# Altium footprint library PCB封装.PcbLib: 59 footprints (part 2 of 4)
Each footprint in its own frame and in the unit in brackets; x right, y up, seen from the top. Pads: shape width x height; smd on the part's side, far side on the other; paste and mask are expansions set on the pad; w line width, h text height; cw(c..) or ccw(c..) is an arc to the next point about the centre after c.
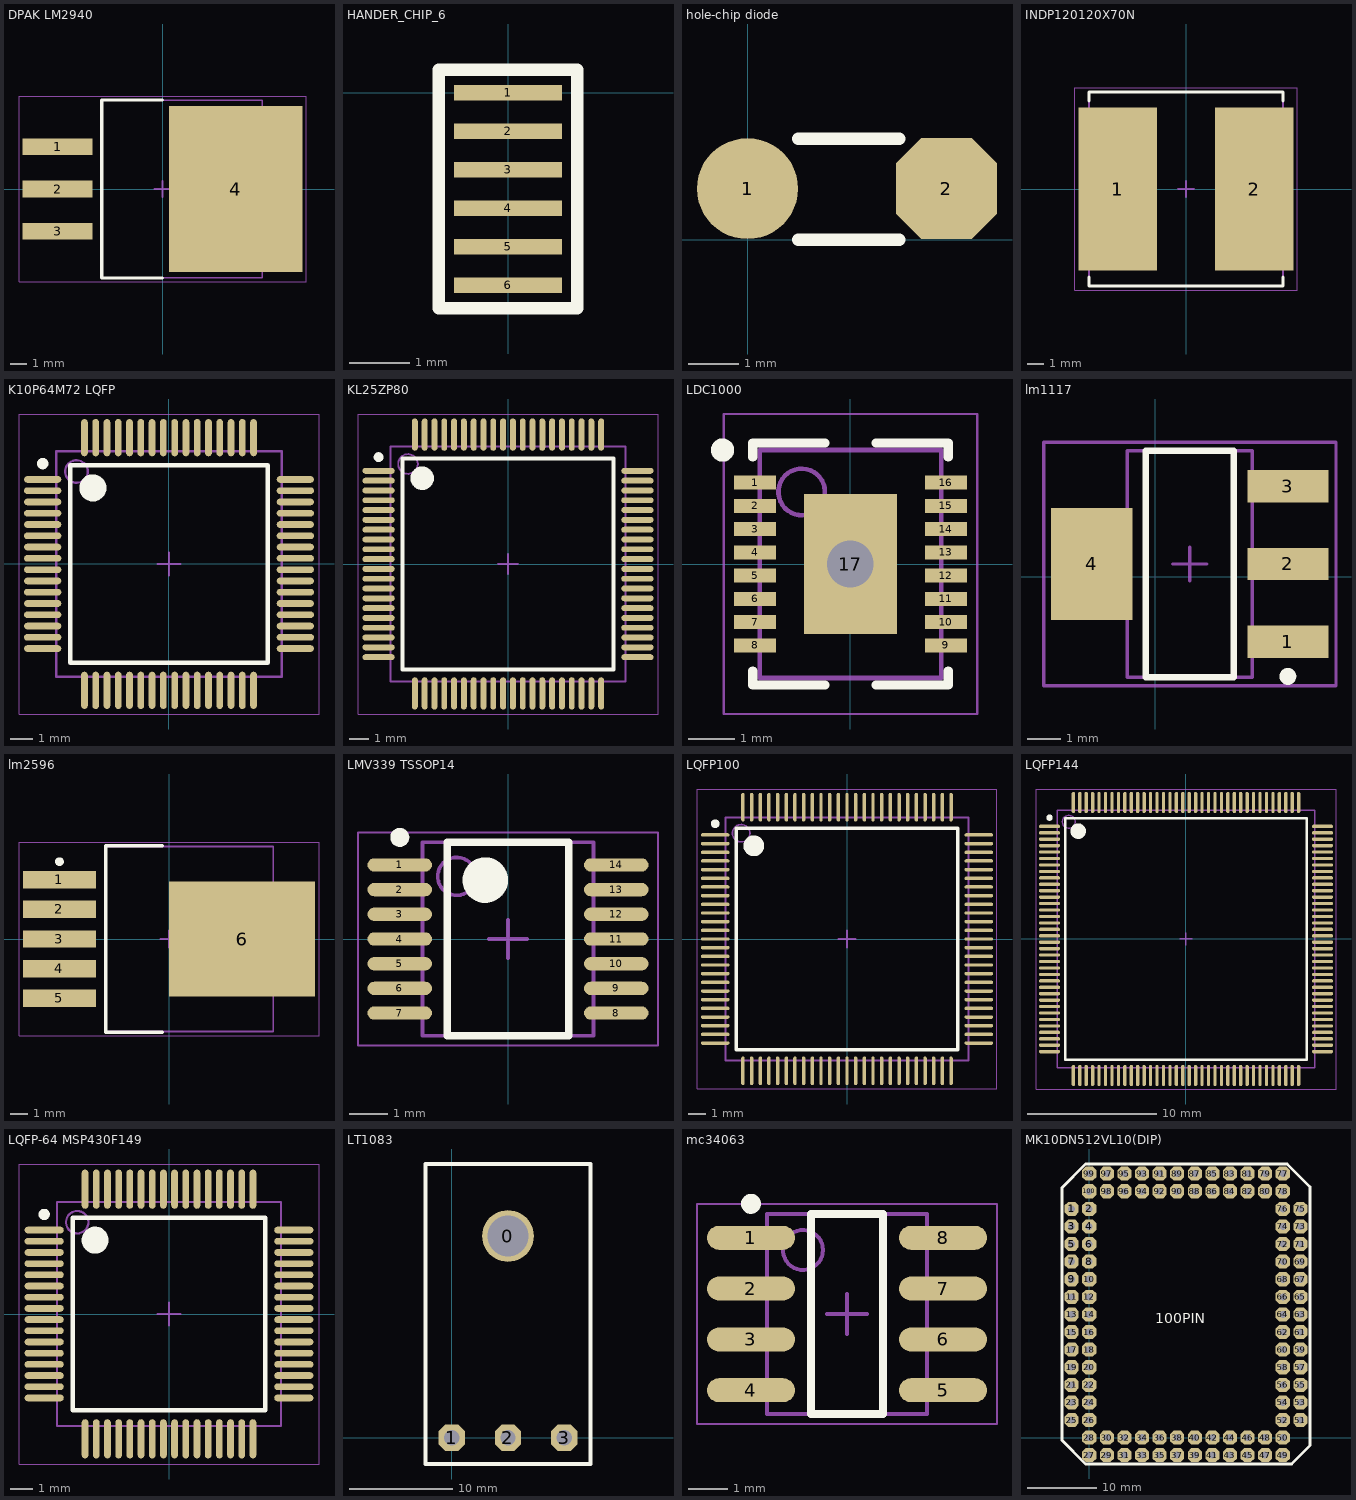
[diagram p1: the footprints below, top view; thin cyan lines are the x and y axes]

## DPAK LM2940 [mm] "D2-PAK, 4-Pads, Body 7.93x8.69mm (max), IPC Medium Density"
height 4.83
pads (4):
  rect 4.2x1 smd: 1(-6.3,2.54) 2(-6.3,0) 3(-6.3,-2.54)
  rect 8x10 smd: 4(4.4,0)
Top Overlay:
  lines w0.2: 0,-5.35 -3.65,-5.35 -3.65,5.35 0,5.35
Mechanical 13:
  lines w0.1: -3.65,-5.325 -3.65,5.325 6,5.325 6,-5.325 -3.65,-5.325
Mechanical 15:
  lines w0.05: -8.625,-5.575 -8.625,5.575 8.625,5.575 8.625,-5.575 -8.625,-5.575
  lines w0.1: -0.5,0 0.5,0 ; 0,-0.5 0,0.5
3D body: height 4.83, standoff 0.58, extent -3.65,-5.325 6,5.325

## HANDER_CHIP_6 [mil]
pads (6):
  rect 70x10 smd: 1(0,0) 2(0,-25) 3(0,-50) 4(0,-75) 5(0,-100) 6(0,-125)
Top Overlay:
  lines w8: -45,-140 -45,15 45,15 45,-140 -45,-140

## hole-chip diode [mm]
pads (2):
  round 2 smd: 1(0,1.016)
  oct 2x2 smd: 2(3.937,1.016)
Top Overlay:
  lines w0.245: 1,0 3,0 ; 1,2 3,2

## INDP120120X70N [mm] "Precision Wire Wound Inductor, 2-Leads, Body 12.00x12.00mm, IPC Medium Density"
height 7
pads (2):
  rect 4.85x10.1 smd: 1(-4.225,0) 2(4.225,0)
Top Overlay:
  lines w0.2: -6,-5.45 -6,-6 6,-6 6,-5.45 ; -6,5.45 -6,6 6,6 6,5.45
Mechanical 13:
  lines w0.1: -6,-6 -6,6 6,6 6,-6 -6,-6
Mechanical 15:
  lines w0.05: -6.875,-6.25 -6.875,6.25 6.875,6.25 6.875,-6.25 -6.875,-6.25
  lines w0.1: -0.5,0 0.5,0 ; 0,-0.5 0,0.5
3D body: height 7, standoff 0, extent -6,-6 6,6

## K10P64M72 LQFP [mm] "TSQFP, 64-Leads, K10P64M72"
height 1.4
pads (64):
  oval 1.65x0.3 smd: 1(-5.6,3.75) 2(-5.6,3.25) 3(-5.6,2.75) 4(-5.6,2.25) 5(-5.6,1.75) 6(-5.6,1.25) 7(-5.6,0.75) 8(-5.6,0.25) 9(-5.6,-0.25) 10(-5.6,-0.75) 11(-5.6,-1.25) 12(-5.6,-1.75) 13(-5.6,-2.25) 14(-5.6,-2.75) 15(-5.6,-3.25) 16(-5.6,-3.75) 33(5.6,-3.75) 34(5.6,-3.25) 35(5.6,-2.75) 36(5.6,-2.25) 37(5.6,-1.75) 38(5.6,-1.25) 39(5.6,-0.75) 40(5.6,-0.25) 41(5.6,0.25) 42(5.6,0.75) 43(5.6,1.25) 44(5.6,1.75) 45(5.6,2.25) 46(5.6,2.75) 47(5.6,3.25) 48(5.6,3.75)
  oval 0.3x1.65 smd: 17(-3.75,-5.6) 18(-3.25,-5.6) 19(-2.75,-5.6) 20(-2.25,-5.6) 21(-1.75,-5.6) 22(-1.25,-5.6) 23(-0.75,-5.6) 24(-0.25,-5.6) 25(0.25,-5.6) 26(0.75,-5.6) 27(1.25,-5.6) 28(1.75,-5.6) 29(2.25,-5.6) 30(2.75,-5.6) 31(3.25,-5.6) 32(3.75,-5.6) 49(3.75,5.6) 50(3.25,5.6) 51(2.75,5.6) 52(2.25,5.6) 53(1.75,5.6) 54(1.25,5.6) 55(0.75,5.6) 56(0.25,5.6) 57(-0.25,5.6) 58(-0.75,5.6) 59(-1.25,5.6) 60(-1.75,5.6) 61(-2.25,5.6) 62(-2.75,5.6) 63(-3.25,5.6) 64(-3.75,5.6)
Top Overlay:
  circle w0.6: c-3.375,3.375 r0.3
  circle w0.25: c-5.6,4.45 r0.125
  lines w0.2: -4.375,-4.375 4.375,-4.375 4.375,4.375 -4.375,4.375 -4.375,-4.375
Mechanical 13:
  circle w0.1: c-4.1,4.1 r0.5
  lines w0.1: -5,-5 5,-5 5,5 -5,5 -5,-5
Mechanical 15:
  lines w0.05: -6.65,-6.65 6.65,-6.65 6.65,6.65 -6.65,6.65 -6.65,-6.65
  lines w0.1: -0.5,0 0.5,0 ; 0,-0.5 0,0.5
3D body: height 1.4, standoff 0.25, extent -5,-5 5,5

## KL25ZP80 [mm]
height 1.6
pads (80):
  oval 1.65x0.3 smd: 1(-6.6,4.75) 2(-6.6,4.25) 3(-6.6,3.75) 4(-6.6,3.25) 5(-6.6,2.75) 6(-6.6,2.25) 7(-6.6,1.75) 8(-6.6,1.25) 9(-6.6,0.75) 10(-6.6,0.25) 11(-6.6,-0.25) 12(-6.6,-0.75) 13(-6.6,-1.25) 14(-6.6,-1.75) 15(-6.6,-2.25) 16(-6.6,-2.75) 17(-6.6,-3.25) 18(-6.6,-3.75) 19(-6.6,-4.25) 20(-6.6,-4.75) 41(6.6,-4.75) 42(6.6,-4.25) 43(6.6,-3.75) 44(6.6,-3.25) 45(6.6,-2.75) 46(6.6,-2.25) 47(6.6,-1.75) 48(6.6,-1.25) 49(6.6,-0.75) 50(6.6,-0.25) 51(6.6,0.25) 52(6.6,0.75) 53(6.6,1.25) 54(6.6,1.75) 55(6.6,2.25) 56(6.6,2.75) 57(6.6,3.25) 58(6.6,3.75) 59(6.6,4.25) 60(6.6,4.75)
  oval 0.3x1.65 smd: 21(-4.75,-6.6) 22(-4.25,-6.6) 23(-3.75,-6.6) 24(-3.25,-6.6) 25(-2.75,-6.6) 26(-2.25,-6.6) 27(-1.75,-6.6) 28(-1.25,-6.6) 29(-0.75,-6.6) 30(-0.25,-6.6) 31(0.25,-6.6) 32(0.75,-6.6) 33(1.25,-6.6) 34(1.75,-6.6) 35(2.25,-6.6) 36(2.75,-6.6) 37(3.25,-6.6) 38(3.75,-6.6) 39(4.25,-6.6) 40(4.75,-6.6) 61(4.75,6.6) 62(4.25,6.6) 63(3.75,6.6) 64(3.25,6.6) 65(2.75,6.6) 66(2.25,6.6) 67(1.75,6.6) 68(1.25,6.6) 69(0.75,6.6) 70(0.25,6.6) 71(-0.25,6.6) 72(-0.75,6.6) 73(-1.25,6.6) 74(-1.75,6.6) 75(-2.25,6.6) 76(-2.75,6.6) 77(-3.25,6.6) 78(-3.75,6.6) 79(-4.25,6.6) 80(-4.75,6.6)
Top Overlay:
  circle w0.6: c-4.375,4.375 r0.3
  circle w0.25: c-6.6,5.45 r0.125
  lines w0.2: -5.375,-5.375 5.375,-5.375 5.375,5.375 -5.375,5.375 -5.375,-5.375
Mechanical 13:
  circle w0.1: c-5.1,5.1 r0.5
  lines w0.1: -6,-6 6,-6 6,6 -6,6 -6,-6
Mechanical 15:
  lines w0.05: -7.65,-7.65 7.65,-7.65 7.65,7.65 -7.65,7.65 -7.65,-7.65
  lines w0.1: -0.5,0 0.5,0 ; 0,-0.5 0,0.5
3D body: height 1.6, standoff 0.15, extent -6,-6 6,6

## LDC1000 [mm] "QFN, 16-Leads, Body 5.00x4.00mm, Pitch 0.50mm/0.00mm, Thermal Pad 3.75x0.00mm, IPC Medium Density"
height 0.8
pads (17):
  rect 0.9x0.3 smd: 1(-2.05,1.75) 2(-2.05,1.25) 3(-2.05,0.75) 4(-2.05,0.25) 5(-2.05,-0.25) 6(-2.05,-0.75) 7(-2.05,-1.25) 8(-2.05,-1.75) 9(2.05,-1.75) 10(2.05,-1.25) 11(2.05,-0.75) 12(2.05,-0.25) 13(2.05,0.25) 14(2.05,0.75) 15(2.05,1.25) 16(2.05,1.75)
  rect 2x3 hole 1: 17(0,0)
Top Overlay:
  circle w0.25: c-2.75,2.45 r0.125
  lines w0.2: -2.1,-2.3 -2.1,-2.6 -0.55,-2.6 ; -2.1,2.3 -2.1,2.6 -0.55,2.6 ; 0.55,-2.6 2.1,-2.6 2.1,-2.3 ; 0.55,2.6 2.1,2.6 2.1,2.3
Mechanical 13:
  circle w0.1: c-1.05,1.55 r0.5
  lines w0.1: -1.95,-2.45 -1.95,2.45 1.95,2.45 1.95,-2.45 -1.95,-2.45
Mechanical 15:
  lines w0.05: -2.725,-3.225 -2.725,3.225 2.725,3.225 2.725,-3.225 -2.725,-3.225
  lines w0.1: -0.5,0 0.5,0 ; 0,-0.5 0,0.5
3D body: height 0.8, standoff 0.1, extent -1.95,-2.45 1.95,2.45

## lm1117 [mm]
pads (4):
  rect 2.4x0.95 smd: 1(3.916,-1.919) 2(3.916,0.381) 3(3.916,2.681)
  rect 2.4x3.3 smd: 4(-1.884,0.381)
Top Overlay:
  circle w0.25: c3.916,-2.944 r0.125
  lines w0.2: -0.284,-2.969 2.316,-2.969 2.316,3.731 -0.284,3.731 -0.284,-2.969
Mechanical 13:
  lines w0.1: -0.834,-2.969 2.866,-2.969 2.866,3.731 -0.834,3.731 -0.834,-2.969
Mechanical 15:
  lines w0.1: 0.516,0.381 1.516,0.381 ; 1.016,-0.119 1.016,0.881 ; -3.309,-3.219 5.341,-3.219 5.341,3.981 -3.309,3.981 -3.309,-3.219
3D body: height 1.8, standoff 0.02, extent -0.834,-2.969 2.866,3.731

## lm2596 [mm]
height 4.83
pads (6):
  rect 4.2x1 smd: 1(-6.3,3.4) 2(-6.3,1.7) 3(-6.3,0) 4(-6.3,-1.7) 5(-6.3,-3.4)
  rect 8.4x6.6 smd: 6(4.2,0)
Top Overlay:
  circle w0.25: c-6.3,4.45 r0.125
  lines w0.2: -0.4,-5.35 -3.65,-5.35 -3.65,5.35 -0.4,5.35
Mechanical 13:
  lines w0.1: -3.65,-5.325 -3.65,5.325 6,5.325 6,-5.325 -3.65,-5.325
Mechanical 15:
  lines w0.05: -8.625,-5.575 -8.625,5.575 8.625,5.575 8.625,-5.575 -8.625,-5.575
  lines w0.1: -0.5,0 0.5,0 ; 0,-0.5 0,0.5
3D body: height 4.83, standoff 0.58, extent -3.65,-5.325 6,5.325

## LMV339 TSSOP14 [mm] "TSOP, 14-Leads, Body 5.00x4.40mm, Pitch 0.65mm, IPC Medium Density"
height 1.2
pads (14):
  oval 1.7x0.35 smd: 1(-2.85,1.95) 2(-2.85,1.3) 3(-2.85,0.65) 4(-2.85,0) 5(-2.85,-0.65) 6(-2.85,-1.3) 7(-2.85,-1.95) 8(2.85,-1.95) 9(2.85,-1.3) 10(2.85,-0.65) 11(2.85,0) 12(2.85,0.65) 13(2.85,1.3) 14(2.85,1.95)
Top Overlay:
  circle w0.6: c-0.6,1.55 r0.3
  circle w0.25: c-2.85,2.675 r0.125
  lines w0.2: -1.6,-2.55 1.6,-2.55 1.6,2.55 -1.6,2.55 -1.6,-2.55
Mechanical 13:
  circle w0.1: c-1.35,1.65 r0.5
  lines w0.1: -2.25,-2.55 2.25,-2.55 2.25,2.55 -2.25,2.55 -2.25,-2.55
Mechanical 15:
  lines w0.05: -3.95,-2.8 3.95,-2.8 3.95,2.8 -3.95,2.8 -3.95,-2.8
  lines w0.1: -0.5,0 0.5,0 ; 0,-0.5 0,0.5
3D body: height 1.2, standoff 0.25, extent -2.25,-2.55 2.25,2.55

## LQFP100 [mm] "SQFP, 100-Leads, Body 14.00x14.00mm, Pitch 0.50mm, IPC Medium Density"
height 1.7
pads (100):
  oval 1.65x0.2 smd: 1(-7.6,6) 2(-7.6,5.5) 3(-7.6,5) 4(-7.6,4.5) 5(-7.6,4) 6(-7.6,3.5) 7(-7.6,3) 8(-7.6,2.5) 9(-7.6,2) 10(-7.6,1.5) 11(-7.6,1) 12(-7.6,0.5) 13(-7.6,0) 14(-7.6,-0.5) 15(-7.6,-1) 16(-7.6,-1.5) 17(-7.6,-2) 18(-7.6,-2.5) 19(-7.6,-3) 20(-7.6,-3.5) 21(-7.6,-4) 22(-7.6,-4.5) 23(-7.6,-5) 24(-7.6,-5.5) 25(-7.6,-6) 51(7.6,-6) 52(7.6,-5.5) 53(7.6,-5) 54(7.6,-4.5) 55(7.6,-4) 56(7.6,-3.5) 57(7.6,-3) 58(7.6,-2.5) 59(7.6,-2) 60(7.6,-1.5) 61(7.6,-1) 62(7.6,-0.5) 63(7.6,0) 64(7.6,0.5) 65(7.6,1) 66(7.6,1.5) 67(7.6,2) 68(7.6,2.5) 69(7.6,3) 70(7.6,3.5) 71(7.6,4) 72(7.6,4.5) 73(7.6,5) 74(7.6,5.5) 75(7.6,6)
  oval 0.2x1.65 smd: 26(-6,-7.6) 27(-5.5,-7.6) 28(-5,-7.6) 29(-4.5,-7.6) 30(-4,-7.6) 31(-3.5,-7.6) 32(-3,-7.6) 33(-2.5,-7.6) 34(-2,-7.6) 35(-1.5,-7.6) 36(-1,-7.6) 37(-0.5,-7.6) 38(0,-7.6) 39(0.5,-7.6) 40(1,-7.6) 41(1.5,-7.6) 42(2,-7.6) 43(2.5,-7.6) 44(3,-7.6) 45(3.5,-7.6) 46(4,-7.6) 47(4.5,-7.6) 48(5,-7.6) 49(5.5,-7.6) 50(6,-7.6) 76(6,7.6) 77(5.5,7.6) 78(5,7.6) 79(4.5,7.6) 80(4,7.6) 81(3.5,7.6) 82(3,7.6) 83(2.5,7.6) 84(2,7.6) 85(1.5,7.6) 86(1,7.6) 87(0.5,7.6) 88(0,7.6) 89(-0.5,7.6) 90(-1,7.6) 91(-1.5,7.6) 92(-2,7.6) 93(-2.5,7.6) 94(-3,7.6) 95(-3.5,7.6) 96(-4,7.6) 97(-4.5,7.6) 98(-5,7.6) 99(-5.5,7.6) 100(-6,7.6)
Top Overlay:
  circle w0.25: c-7.6,6.65 r0.125
  circle w0.6: c-5.375,5.375 r0.3
  lines w0.2: -6.375,-6.375 -6.375,6.375 6.375,6.375 6.375,-6.375 -6.375,-6.375
Mechanical 13:
  circle w0.1: c-6.1,6.1 r0.5
  lines w0.1: -7,-7 -7,7 7,7 7,-7 -7,-7
Mechanical 15:
  lines w0.05: -8.65,-8.65 -8.65,8.65 8.65,8.65 8.65,-8.65 -8.65,-8.65
  lines w0.1: -0.5,0 0.5,0 ; 0,-0.5 0,0.5
3D body: height 1.7, standoff 0.2, extent -7,-7 7,7

## LQFP144 [mm]
height 1.6
pads (144):
  oval 1.65x0.25 smd: 1(-10.6,8.75) 2(-10.6,8.25) 3(-10.6,7.75) 4(-10.6,7.25) 5(-10.6,6.75) 6(-10.6,6.25) 7(-10.6,5.75) 8(-10.6,5.25) 9(-10.6,4.75) 10(-10.6,4.25) 11(-10.6,3.75) 12(-10.6,3.25) 13(-10.6,2.75) 14(-10.6,2.25) 15(-10.6,1.75) 16(-10.6,1.25) 17(-10.6,0.75) 18(-10.6,0.25) 19(-10.6,-0.25) 20(-10.6,-0.75) 21(-10.6,-1.25) 22(-10.6,-1.75) 23(-10.6,-2.25) 24(-10.6,-2.75) 25(-10.6,-3.25) 26(-10.6,-3.75) 27(-10.6,-4.25) 28(-10.6,-4.75) 29(-10.6,-5.25) 30(-10.6,-5.75) 31(-10.6,-6.25) 32(-10.6,-6.75) 33(-10.6,-7.25) 34(-10.6,-7.75) 35(-10.6,-8.25) 36(-10.6,-8.75) 73(10.6,-8.75) 74(10.6,-8.25) 75(10.6,-7.75) 76(10.6,-7.25) 77(10.6,-6.75) 78(10.6,-6.25) 79(10.6,-5.75) 80(10.6,-5.25) 81(10.6,-4.75) 82(10.6,-4.25) 83(10.6,-3.75) 84(10.6,-3.25) 85(10.6,-2.75) 86(10.6,-2.25) 87(10.6,-1.75) 88(10.6,-1.25) 89(10.6,-0.75) 90(10.6,-0.25) 91(10.6,0.25) 92(10.6,0.75) 93(10.6,1.25) 94(10.6,1.75) 95(10.6,2.25) 96(10.6,2.75) 97(10.6,3.25) 98(10.6,3.75) 99(10.6,4.25) 100(10.6,4.75) 101(10.6,5.25) 102(10.6,5.75) 103(10.6,6.25) 104(10.6,6.75) 105(10.6,7.25) 106(10.6,7.75) 107(10.6,8.25) 108(10.6,8.75)
  oval 0.25x1.65 smd: 37(-8.75,-10.6) 38(-8.25,-10.6) 39(-7.75,-10.6) 40(-7.25,-10.6) 41(-6.75,-10.6) 42(-6.25,-10.6) 43(-5.75,-10.6) 44(-5.25,-10.6) 45(-4.75,-10.6) 46(-4.25,-10.6) 47(-3.75,-10.6) 48(-3.25,-10.6) 49(-2.75,-10.6) 50(-2.25,-10.6) 51(-1.75,-10.6) 52(-1.25,-10.6) 53(-0.75,-10.6) 54(-0.25,-10.6) 55(0.25,-10.6) 56(0.75,-10.6) 57(1.25,-10.6) 58(1.75,-10.6) 59(2.25,-10.6) 60(2.75,-10.6) 61(3.25,-10.6) 62(3.75,-10.6) 63(4.25,-10.6) 64(4.75,-10.6) 65(5.25,-10.6) 66(5.75,-10.6) 67(6.25,-10.6) 68(6.75,-10.6) 69(7.25,-10.6) 70(7.75,-10.6) 71(8.25,-10.6) 72(8.75,-10.6) 109(8.75,10.6) 110(8.25,10.6) 111(7.75,10.6) 112(7.25,10.6) 113(6.75,10.6) 114(6.25,10.6) 115(5.75,10.6) 116(5.25,10.6) 117(4.75,10.6) 118(4.25,10.6) 119(3.75,10.6) 120(3.25,10.6) 121(2.75,10.6) 122(2.25,10.6) 123(1.75,10.6) 124(1.25,10.6) 125(0.75,10.6) 126(0.25,10.6) 127(-0.25,10.6) 128(-0.75,10.6) 129(-1.25,10.6) 130(-1.75,10.6) 131(-2.25,10.6) 132(-2.75,10.6) 133(-3.25,10.6) 134(-3.75,10.6) 135(-4.25,10.6) 136(-4.75,10.6) 137(-5.25,10.6) 138(-5.75,10.6) 139(-6.25,10.6) 140(-6.75,10.6) 141(-7.25,10.6) 142(-7.75,10.6) 143(-8.25,10.6) 144(-8.75,10.6)
Top Overlay:
  circle w0.6: c-8.375,8.375 r0.3
  circle w0.25: c-10.6,9.425 r0.125
  lines w0.2: -9.375,-9.375 9.375,-9.375 9.375,9.375 -9.375,9.375 -9.375,-9.375
Mechanical 13:
  circle w0.1: c-9.1,9.1 r0.5
  lines w0.1: -10,-10 10,-10 10,10 -10,10 -10,-10
Mechanical 15:
  lines w0.05: -11.65,-11.65 11.65,-11.65 11.65,11.65 -11.65,11.65 -11.65,-11.65
  lines w0.1: -0.5,0 0.5,0 ; 0,-0.5 0,0.5
3D body: height 1.6, standoff 0.25, extent -10,-10 10,10

## LQFP-64 MSP430F149 [mm]
height 1.6
pads (64):
  oval 1.75x0.3 smd: 1(-5.575,3.75) 2(-5.575,3.25) 3(-5.575,2.75) 4(-5.575,2.25) 5(-5.575,1.75) 6(-5.575,1.25) 7(-5.575,0.75) 8(-5.575,0.25) 9(-5.575,-0.25) 10(-5.575,-0.75) 11(-5.575,-1.25) 12(-5.575,-1.75) 13(-5.575,-2.25) 14(-5.575,-2.75) 15(-5.575,-3.25) 16(-5.575,-3.75) 33(5.575,-3.75) 34(5.575,-3.25) 35(5.575,-2.75) 36(5.575,-2.25) 37(5.575,-1.75) 38(5.575,-1.25) 39(5.575,-0.75) 40(5.575,-0.25) 41(5.575,0.25) 42(5.575,0.75) 43(5.575,1.25) 44(5.575,1.75) 45(5.575,2.25) 46(5.575,2.75) 47(5.575,3.25) 48(5.575,3.75)
  oval 0.3x1.75 smd: 17(-3.75,-5.575) 18(-3.25,-5.575) 19(-2.75,-5.575) 20(-2.25,-5.575) 21(-1.75,-5.575) 22(-1.25,-5.575) 23(-0.75,-5.575) 24(-0.25,-5.575) 25(0.25,-5.575) 26(0.75,-5.575) 27(1.25,-5.575) 28(1.75,-5.575) 29(2.25,-5.575) 30(2.75,-5.575) 31(3.25,-5.575) 32(3.75,-5.575) 49(3.75,5.575) 50(3.25,5.575) 51(2.75,5.575) 52(2.25,5.575) 53(1.75,5.575) 54(1.25,5.575) 55(0.75,5.575) 56(0.25,5.575) 57(-0.25,5.575) 58(-0.75,5.575) 59(-1.25,5.575) 60(-1.75,5.575) 61(-2.25,5.575) 62(-2.75,5.575) 63(-3.25,5.575) 64(-3.75,5.575)
Top Overlay:
  circle w0.25: c-5.575,4.45 r0.125
  circle w0.6: c-3.3,3.3 r0.3
  lines w0.2: -4.3,-4.3 -4.3,4.3 4.3,4.3 4.3,-4.3 -4.3,-4.3
Mechanical 13:
  circle w0.1: c-4.1,4.1 r0.5
  lines w0.1: -5,-5 -5,5 5,5 5,-5 -5,-5
Mechanical 15:
  lines w0.05: -6.7,-6.7 -6.7,6.7 6.7,6.7 6.7,-6.7 -6.7,-6.7
  lines w0.1: -0.5,0 0.5,0 ; 0,-0.5 0,0.5
3D body: height 1.6, standoff 0.25, extent -5,-5 5,5

## LT1083 [mm]
pads (4):
  round 5 hole 4: 0(5.46,19.56)
  oct 2.54x2.54 hole 1.5: 1(0,0) 2(5.46,0) 3(10.92,0)
Top Overlay:
  lines w0.381: -2.54,26.42 -2.54,-2.54 -2.032,-2.54 13.462,-2.54 13.462,26.543 -2.54,26.543

## mc34063 [mm]
height 1.75
pads (8):
  oval 2.2x0.6 smd: 1(-28.8,22.86) 2(-28.8,21.59) 3(-28.8,20.32) 4(-28.8,19.05) 5(-24,19.05) 6(-24,20.32) 7(-24,21.59) 8(-24,22.86)
Top Overlay:
  circle w0.25: c-28.8,23.71 r0.125
  lines w0.2: -27.3,18.455 -27.3,23.455 -25.5,23.455 -25.5,18.455 -27.3,18.455
Mechanical 13:
  circle w0.1: c-27.5,22.555 r0.5
  lines w0.1: -28.4,18.455 -28.4,23.455 -24.4,23.455 -24.4,18.455 -28.4,18.455
Mechanical 15:
  lines w0.05: -30.15,18.205 -30.15,23.705 -22.65,23.705 -22.65,18.205 -30.15,18.205
  lines w0.1: -26.9,20.955 -25.9,20.955 ; -26.4,20.455 -26.4,21.455
3D body: height 1.75, standoff 0.25, extent -28.4,18.455 -24.4,23.455

## MK10DN512VL10(DIP) [mil]
pads (100):
  oct 80x80 hole 40: 1(-100,1300) 2(0,1300) 3(-100,1200) 4(0,1200) 5(-100,1100) 6(0,1100) 7(-100,1000) 8(0,1000) 9(-100,900) 10(0,900) 11(-100,800) 12(0,800) 13(-100,700) 14(0,700) 15(-100,600) 16(0,600) 17(-100,500) 18(0,500) 19(-100,400) 20(0,400) 21(-100,300) 22(0,300) 23(-100,200) 24(0,200) 25(-100,100) 26(0,100) 27(0,-100) 28(0,0) 29(100,-100) 30(100,0) 31(200,-100) 32(200,0) 33(300,-100) 34(300,0) 35(400,-100) 36(400,0) 37(500,-100) 38(500,0) 39(600,-100) 40(600,0) 41(700,-100) 42(700,0) 43(800,-100) 44(800,0) 45(900,-100) 46(900,0) 47(1000,-100) 48(1000,0) 49(1100,-100) 50(1100,0) 51(1200,100) 52(1100,100) 53(1200,200) 54(1100,200) 55(1200,300) 56(1100,300) 57(1200,400) 58(1100,400) 59(1200,500) 60(1100,500) 61(1200,600) 62(1100,600) 63(1200,700) 64(1100,700) 65(1200,800) 66(1100,800) 67(1200,900) 68(1100,900) 69(1200,1000) 70(1100,1000) 71(1200,1100) 72(1100,1100) 73(1200,1200) 74(1100,1200) 75(1200,1300) 76(1100,1300) 77(1100,1500) 78(1100,1400) 79(1000,1500) 80(1000,1400) 81(900,1500) 82(900,1400) 83(800,1500) 84(800,1400) 85(700,1500) 86(700,1400) 87(600,1500) 88(600,1400) 89(500,1500) 90(500,1400) 91(400,1500) 92(400,1400) 93(300,1500) 94(300,1400) 95(200,1500) 96(200,1400) 97(100,1500) 98(100,1400) 99(0,1500) 100(0,1400)
Top Overlay:
  lines w15: -155,-15 -20,-150 1150,-150 1255,-45 1255,1425 1125,1555 -20,1555 -155,1420 -155,-15
  text "100PIN" at 375,630 h100